# EAGLE library part STM32F4-DISCOVERY (library MDB_HOME)
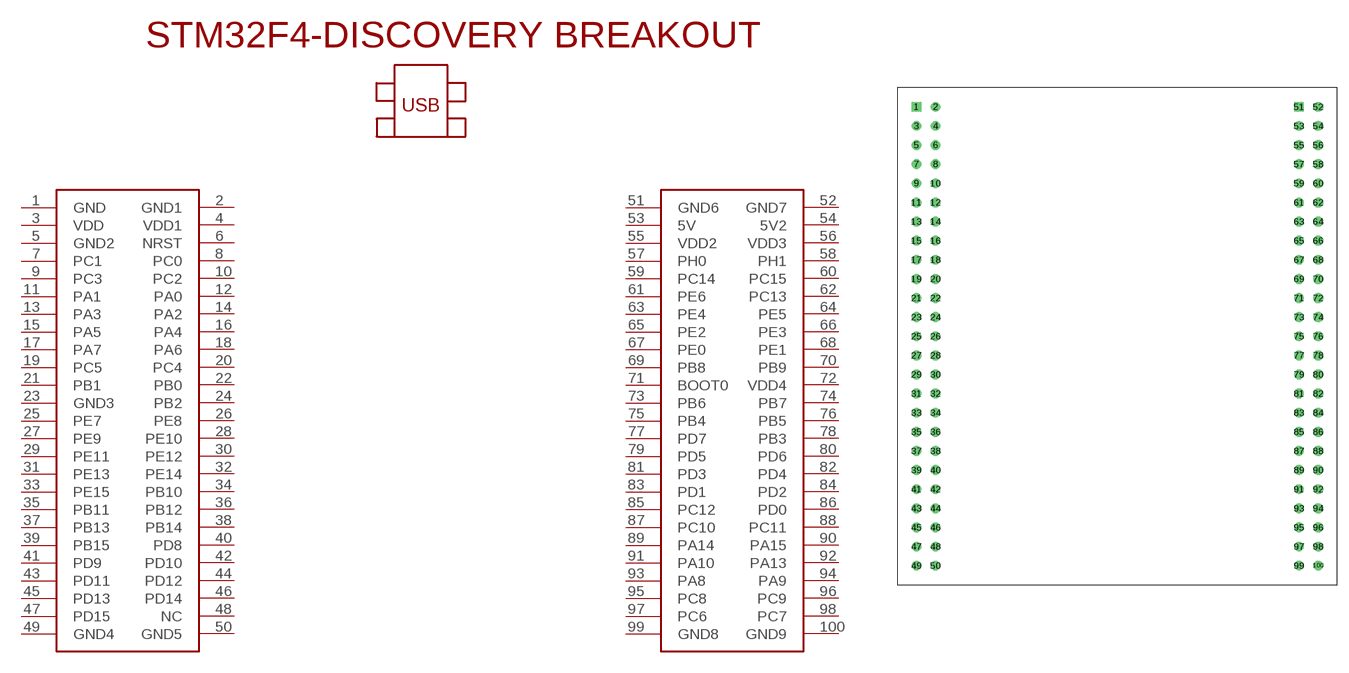
[diagram p29: symbol with the pads of STM32F4-DISCOVERY; footprint STM32F4-DISCOVERY]

Designator prefix -

## STM32F4-DISCOVERY_UGLY  [STM32F4-DISCOVERY]
1  GND
2  GND1
3  VDD
4  VDD1
5  GND2
6  NRST
7  PC1
8  PC0
9  PC3
10  PC2
11  PA1
12  PA0
13  PA3
14  PA2
15  PA5
16  PA4
17  PA7
18  PA6
19  PC5
20  PC4
21  PB1
22  PB0
23  GND3
24  PB2
25  PE7
26  PE8
27  PE9
28  PE10
29  PE11
30  PE12
31  PE13
32  PE14
33  PE15
34  PB10
35  PB11
36  PB12
37  PB13
38  PB14
39  PB15
40  PD8
41  PD9
42  PD10
43  PD11
44  PD12
45  PD13
46  PD14
47  PD15
48  NC
49  GND4
50  GND5
51  GND6
52  GND7
53  5V
54  5V2
55  VDD2
56  VDD3
57  PH0
58  PH1
59  PC14
60  PC15
61  PE6
62  PC13
63  PE4
64  PE5
65  PE2
66  PE3
67  PE0
68  PE1
69  PB8
70  PB9
71  BOOT0
72  VDD4
73  PB6
74  PB7
75  PB4
76  PB5
77  PD7
78  PB3
79  PD5
80  PD6
81  PD3
82  PD4
83  PD1
84  PD2
85  PC12
86  PD0
87  PC10
88  PC11
89  PA14
90  PA15
91  PA10
92  PA13
93  PA8
94  PA9
95  PC8
96  PC9
97  PC6
98  PC7
99  GND8
100  GND9

## Footprint STM32F4-DISCOVERY (pad centres in mm)
drill 0.8 square: 1 -27.94,30.48; 51 22.86,30.48
drill 0.8: 2 -25.4,30.48; 3 -27.94,27.94; 4 -25.4,27.94; 5 -27.94,25.4; 6 -25.4,25.4; 7 -27.94,22.86; 8 -25.4,22.86; 9 -27.94,20.32; 10 -25.4,20.32; 11 -27.94,17.78; 12 -25.4,17.78; 13 -27.94,15.24; 14 -25.4,15.24; 15 -27.94,12.7; 16 -25.4,12.7; 17 -27.94,10.16; 18 -25.4,10.16; 19 -27.94,7.62; 20 -25.4,7.62; 21 -27.94,5.08; 22 -25.4,5.08; 23 -27.94,2.54; 24 -25.4,2.54; 25 -27.94,0; 26 -25.4,0; 27 -27.94,-2.54; 28 -25.4,-2.54; 29 -27.94,-5.08; 30 -25.4,-5.08; 31 -27.94,-7.62; 32 -25.4,-7.62; 33 -27.94,-10.16; 34 -25.4,-10.16; 35 -27.94,-12.7; 36 -25.4,-12.7; 37 -27.94,-15.24; 38 -25.4,-15.24; 39 -27.94,-17.78; 40 -25.4,-17.78; 41 -27.94,-20.32; 42 -25.4,-20.32; 43 -27.94,-22.86; 44 -25.4,-22.86; 45 -27.94,-25.4; 46 -25.4,-25.4; 47 -27.94,-27.94; 48 -25.4,-27.94; 49 -27.94,-30.48; 50 -25.4,-30.48; 52 25.4,30.48; 53 22.86,27.94; 54 25.4,27.94; 55 22.86,25.4; 56 25.4,25.4; 57 22.86,22.86; 58 25.4,22.86; 59 22.86,20.32; 60 25.4,20.32; 61 22.86,17.78; 62 25.4,17.78; 63 22.86,15.24; 64 25.4,15.24; 65 22.86,12.7; 66 25.4,12.7; 67 22.86,10.16; 68 25.4,10.16; 69 22.86,7.62; 70 25.4,7.62; 71 22.86,5.08; 72 25.4,5.08; 73 22.86,2.54; 74 25.4,2.54; 75 22.86,0; 76 25.4,0; 77 22.86,-2.54; 78 25.4,-2.54; 79 22.86,-5.08; 80 25.4,-5.08; 81 22.86,-7.62; 82 25.4,-7.62; 83 22.86,-10.16; 84 25.4,-10.16; 85 22.86,-12.7; 86 25.4,-12.7; 87 22.86,-15.24; 88 25.4,-15.24; 89 22.86,-17.78; 90 25.4,-17.78; 91 22.86,-20.32; 92 25.4,-20.32; 93 22.86,-22.86; 94 25.4,-22.86; 95 22.86,-25.4; 96 25.4,-25.4; 97 22.86,-27.94; 98 25.4,-27.94; 99 22.86,-30.48; 100 25.4,-30.48